# EAGLE library part CON-1X10 (library steves)
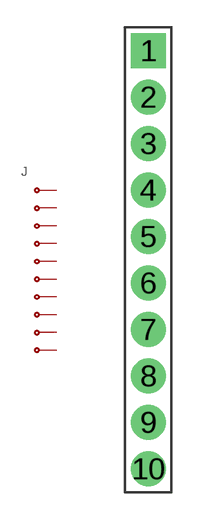
[diagram p27: symbol with the pads of CON-HDR-1X10; footprint CON-HDR-1X10]

Designator prefix J

## CON-1X10CON-HDR-1X10  [CON-HDR-1X10]
1  1  pas
2  2  pas
3  3  pas
4  4  pas
5  5  pas
6  6  pas
7  7  pas
8  8  pas
9  9  pas
10  10  pas

## Footprint CON-HDR-1X10 (pad centres in mm)
drill 0.9 pad 1.93 square: 1 0,11.43
drill 0.9 pad 1.93: 2 0,8.89; 3 0,6.35; 4 0,3.81; 5 0,1.27; 6 0,-1.27; 7 0,-3.81; 8 0,-6.35; 9 0,-8.89; 10 0,-11.43